# Altium schematic symbol library BATTERIJ_COMPARATOR.SchLib: 1 symbol
Pins are listed as number, name and electrical type; pins without a type are passive.

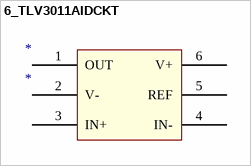
[diagram p0: symbol 6_TLV3011AIDCKT]

## 6_TLV3011AIDCKT
designator *
Comparator, Nanopower, Open-Drain, 1.242V Ref, 1.8V-5.5V
pins: 1 OUT, 2 V- (power), 3 IN+ (power), 4 IN-, 5 REF, 6 V+